# EAGLE library part 7SEG (library FP-21T for MITS)
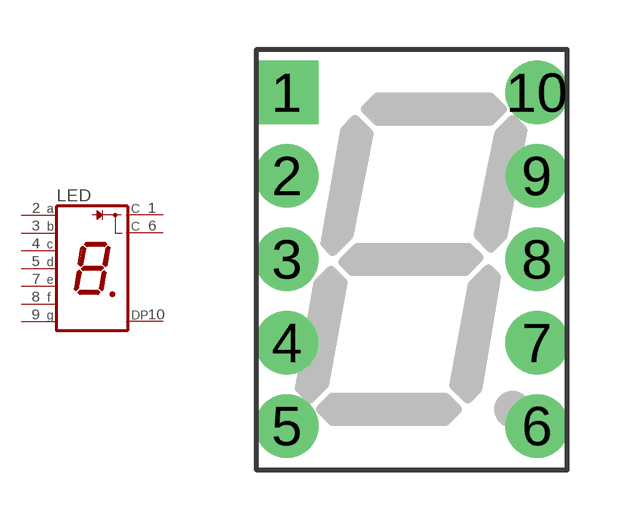
[diagram p10: symbol with the pads of 7SEG; footprint 7SEG]

Designator prefix LED

## 7SEG  [7SEG]
1  C  pas
2  A  pas
3  B  pas
4  C  pas
5  D  pas
6  C  pas
7  E  pas
8  F  pas
9  G  pas
10  DP  pas

## Footprint 7SEG (pad centres in mm)
drill 0.8 pad 1.93 square: 1 -3.81,5.08
drill 0.8 pad 1.93: 2 -3.81,2.54; 3 -3.81,0; 4 -3.81,-2.54; 5 -3.81,-5.08; 6 3.81,-5.08; 7 3.81,-2.54; 8 3.81,0; 9 3.81,2.54; 10 3.81,5.08